# EAGLE library part MSTBA-07 (library con-phoenix-500)
COMBICON MSTBA - 1755493
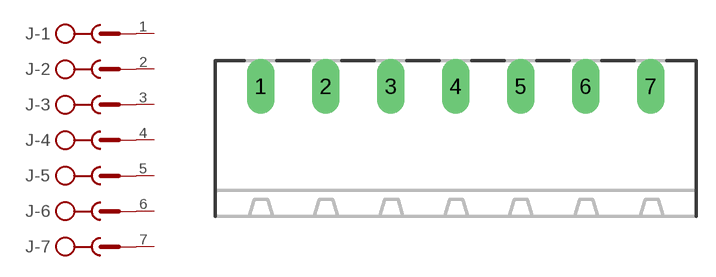
[diagram p17: symbol with the pads of MSTBA-07; footprint MSTBA-07]

Designator prefix J; gates -1=SK -2=SK -3=SK -4=SK -5=SK -6=SK -7=SK

## MSTBA-07  [MSTBA-07]
1  -1:SK  pas
2  -2:SK  pas
3  -3:SK  pas
4  -4:SK  pas
5  -5:SK  pas
6  -6:SK  pas
7  -7:SK  pas

## Footprint MSTBA-07 (pad centres in mm)
COMBICON MSTBA 5.00mm
drill 1.422 long: 1 -15,0; 2 -10,0; 3 -5,0; 4 0,0; 5 5,0; 6 10,0; 7 15,0